# EAGLE library part AK4493EQ (library my_ic)
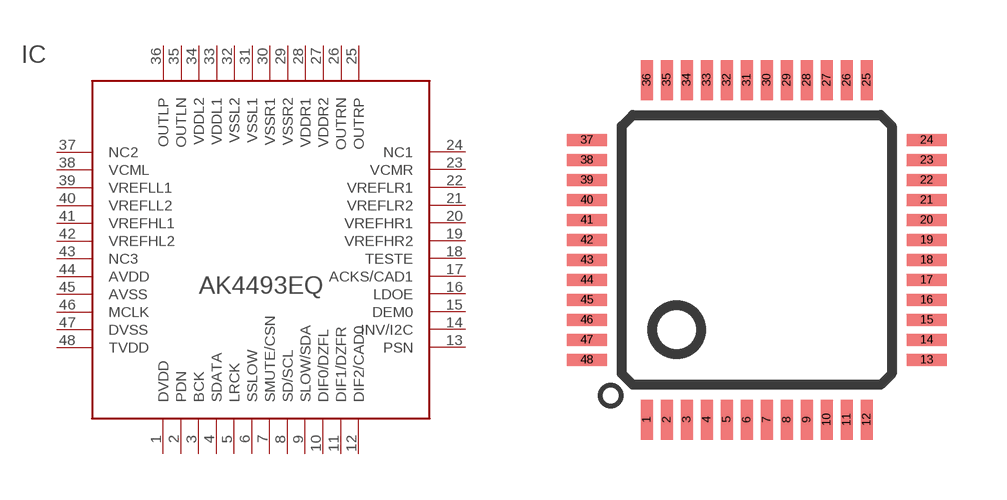
[diagram p16: symbol with the pads of LQFP48; footprint LQFP48]

Designator prefix IC

## AK4493EQ  [LQFP48]
1  DVDD  pwr
2  PDN  in
3  BCK  in
4  SDATA  in
5  LRCK  in
6  SSLOW  in
7  SMUTE/CSN  in
8  SD/SCL
9  SLOW/SDA
10  DIF0/DZFL
11  DIF1/DZFR
12  DIF2/CAD0  in
13  PSN  in
14  INV/I2C  in
15  DEM0  in
16  LDOE
17  ACKS/CAD1  in
18  TESTE  in
19  VREFHR2  pwr
20  VREFHR1  pwr
21  VREFLR2  pwr
22  VREFLR1  pwr
23  VCMR  pwr
24  NC1  nc
25  OUTRP  out
26  OUTRN  out
27  VDDR2  pwr
28  VDDR1  pwr
29  VSSR2  pwr
30  VSSR1  pwr
31  VSSL1  pwr
32  VSSL2  pwr
33  VDDL1  pwr
34  VDDL2  pwr
35  OUTLN  out
36  OUTLP  out
37  NC2  nc
38  VCML  pwr
39  VREFLL1  pwr
40  VREFLL2  pwr
41  VREFHL1  pwr
42  VREFHL2  pwr
43  NC3  nc
44  AVDD  pwr
45  AVSS  pwr
46  MCLK  in
47  DVSS  pwr
48  TVDD  pwr

## Footprint LQFP48 (pad centres in mm)
48-pin plastic LQFP (FPT-48P-M26) www.fma.fujitsu.com/pdf/e713717.pdf
smd 0.3 x 1: 1 -2.75,-4.25; 2 -2.25,-4.25; 3 -1.75,-4.25; 4 -1.25,-4.25; 5 -0.75,-4.25; 6 -0.25,-4.25; 7 0.25,-4.25; 8 0.75,-4.25; 9 1.25,-4.25; 10 1.75,-4.25; 11 2.25,-4.25; 12 2.75,-4.25; 25 2.75,4.25; 26 2.25,4.25; 27 1.75,4.25; 28 1.25,4.25; 29 0.75,4.25; 30 0.25,4.25; 31 -0.25,4.25; 32 -0.75,4.25; 33 -1.25,4.25; 34 -1.75,4.25; 35 -2.25,4.25; 36 -2.75,4.25
smd 1 x 0.3: 13 4.25,-2.75; 14 4.25,-2.25; 15 4.25,-1.75; 16 4.25,-1.25; 17 4.25,-0.75; 18 4.25,-0.25; 19 4.25,0.25; 20 4.25,0.75; 21 4.25,1.25; 22 4.25,1.75; 23 4.25,2.25; 24 4.25,2.75; 37 -4.25,2.75; 38 -4.25,2.25; 39 -4.25,1.75; 40 -4.25,1.25; 41 -4.25,0.75; 42 -4.25,0.25; 43 -4.25,-0.25; 44 -4.25,-0.75; 45 -4.25,-1.25; 46 -4.25,-1.75; 47 -4.25,-2.25; 48 -4.25,-2.75